# EAGLE library part ADT7302 (library IC)
Analog Devices Digital Thermometer, Digikey Part Number: ADT7302ARTZ-REEL7CT-ND, Takes ADC reading and then talks via 3/4 wire SPI to a uC
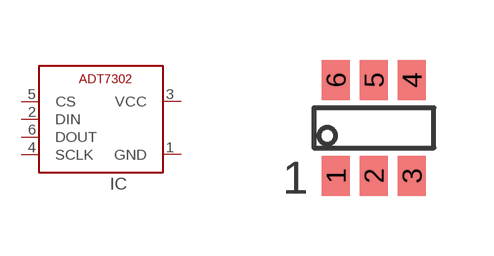
[diagram p199: symbol with the pads of SOT23-6; footprint SOT23-6]

Designator prefix IC

## ADT7302  [SOT23-6]
1  GND  pwr
2  DIN
3  VCC  pwr
4  SCLK
5  CS
6  DOUT

## Footprint SOT23-6 (pad centres in mm)
smd 0.7 x 1: 1 -0.95,-1.2; 2 0,-1.2; 3 0.95,-1.2; 4 0.95,1.2; 5 0,1.2; 6 -0.95,1.2